# Altium schematic symbol library Shottky Diode BAT54S,215.Schlib: 1 symbol
Pins are listed as number, name and electrical type; pins without a type are passive.

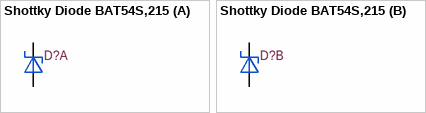
[diagram p0: symbol Shottky Diode BAT54S,215]

## Shottky Diode BAT54S,215
designator D?
30V 200mA 800mV @ 100mA SOT-23(SOT-23-3) Schottky Barrier Diodes (SBD) ROHS; LCSC Part #: C47546; JLCPCB Part Type: Extended
footprint SOT23-3
part A pins: 1, 3
part B pins: 2, 3